# Altium footprint library RF_Module.PcbLib: 68 footprints (part 1 of 5)
Each footprint in its own frame and in the unit in brackets; x right, y up, seen from the top. Pads: shape width x height; smd on the part's side, far side on the other; paste and mask are expansions set on the pad; w line width, h text height; cw(c..) or ccw(c..) is an arc to the next point about the centre after c.
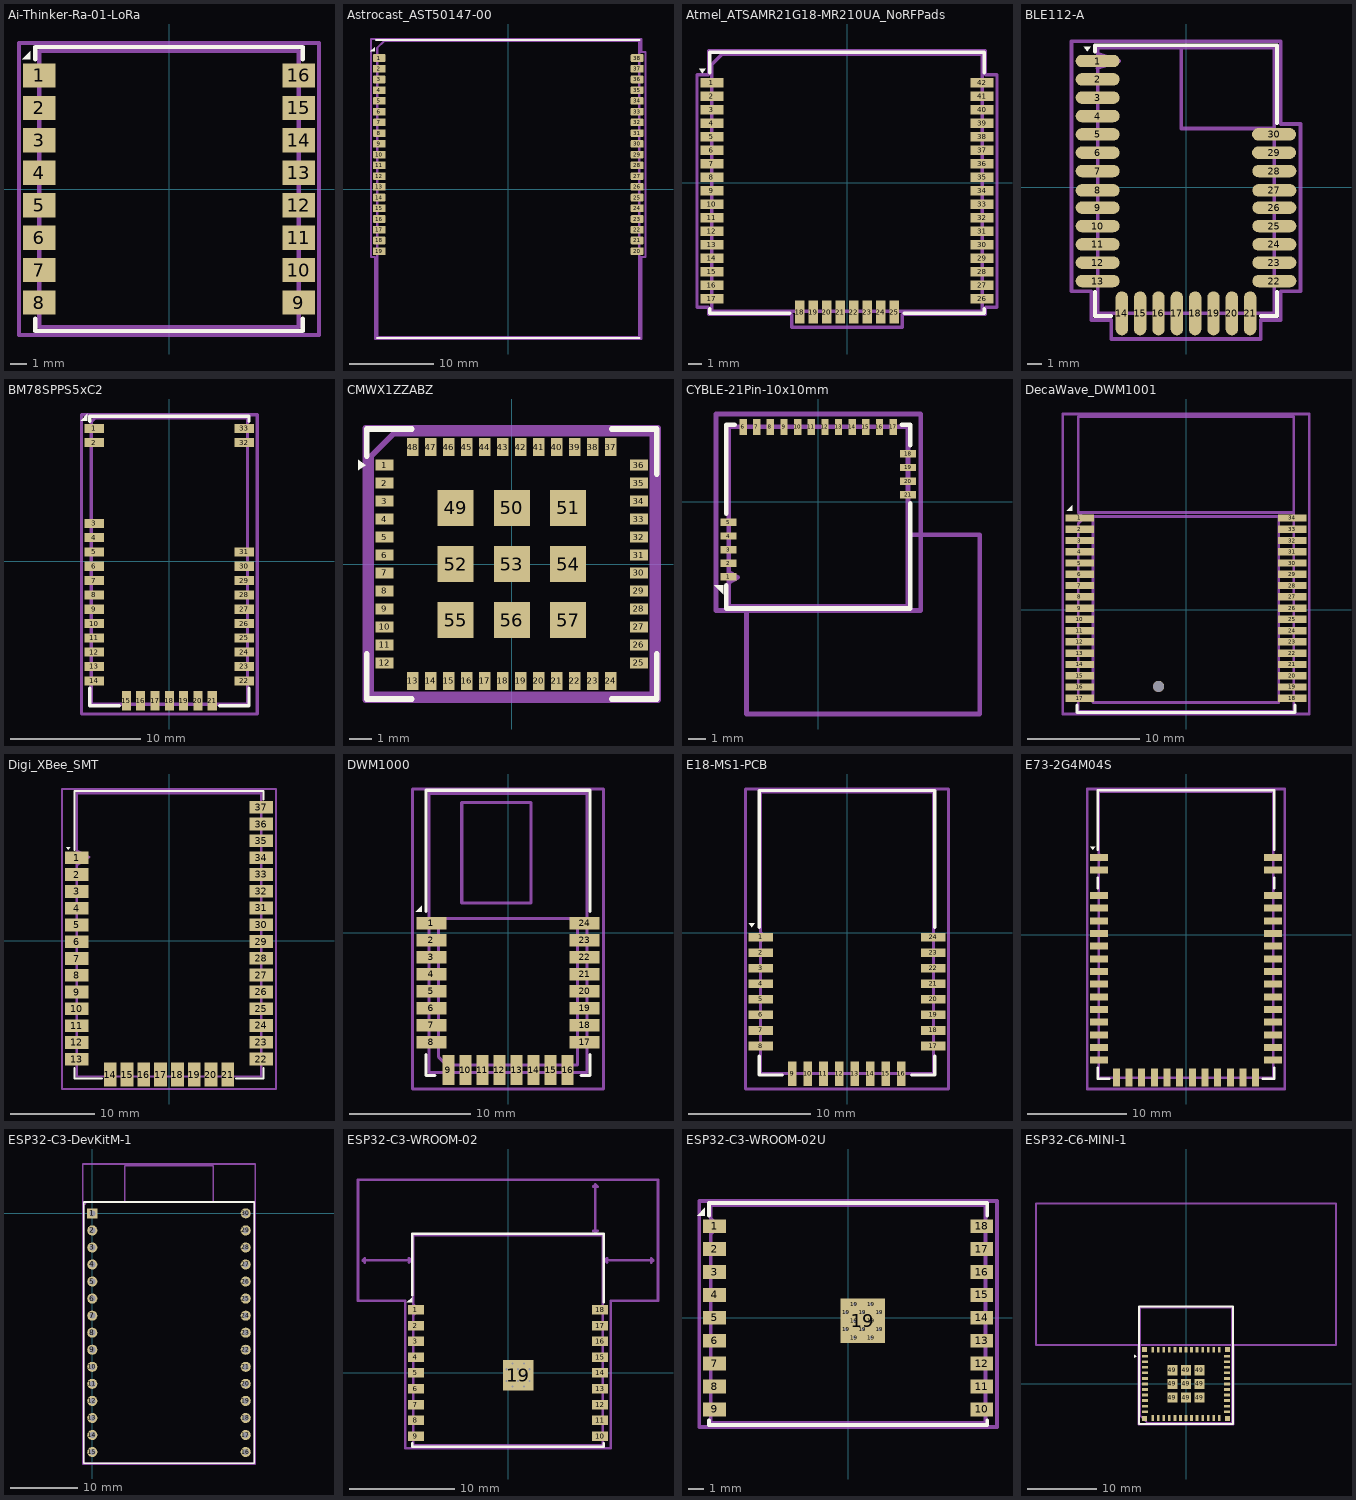
[diagram p0: the footprints below, top view; thin cyan lines are the x and y axes]

## Ai-Thinker-Ra-01-LoRa [mm]
pads (16):
  rect 2x1.5 smd: 1(-8,7) 2(-8,5) 3(-8,3) 4(-8,1) 5(-8,-1) 6(-8,-3) 7(-8,-5) 8(-8,-7) 9(8,-7) 10(8,-5) 11(8,-3) 12(8,-1) 13(8,1) 14(8,3) 15(8,5) 16(8,7)
F.SilkS:
  region: -8.55,8 -9.05,8 -8.55,8.5
  lines w0.254: -8.25,-8 -8.25,-8.75 8.25,-8.75 8.25,-8 ; -8.25,8 -8.25,8.75 8.25,8.75 8.25,8
F.Fab:
  lines w0.254: -8,-8.5 8,-8.5 8,8.5 -8,8.5 -8,-8.5
  text "'.Designator'" at -4.047,-1.84 h1
F.CrtYd:
  lines w0.254: -9.25,-9 9.25,-9 9.25,9 -9.25,9 -9.25,-9

## Astrocast_AST50147-00 [mm]
pads (38):
  rrect20% 1.5x0.9 smd: 1(-15.25,15.5) 2(-15.25,14.23) 3(-15.25,12.96) 4(-15.25,11.69) 5(-15.25,10.42) 6(-15.25,9.15) 7(-15.25,7.88) 8(-15.25,6.61) 9(-15.25,5.34) 10(-15.25,4.07) 11(-15.25,2.8) 12(-15.25,1.53) 13(-15.25,0.26) 14(-15.25,-1.01) 15(-15.25,-2.28) 16(-15.25,-3.55) 17(-15.25,-4.82) 18(-15.25,-6.09) 19(-15.25,-7.36) 20(15.25,-7.36) 21(15.25,-6.09) 22(15.25,-4.82) 23(15.25,-3.55) 24(15.25,-2.28) 25(15.25,-1.01) 26(15.25,0.26) 27(15.25,1.53) 28(15.25,2.8) 29(15.25,4.07) 30(15.25,5.34) 31(15.25,6.61) 32(15.25,7.88) 33(15.25,9.15) 34(15.25,10.42) 35(15.25,11.69) 36(15.25,12.96) 37(15.25,14.23) 38(15.25,15.5)
F.SilkS:
  region: -15.8,16.3 -16.3,16.3 -15.8,16.8
  lines w0.254: -15.62,17.62 15.5,17.62 ; -15.5,-17.62 15.5,-17.62
F.Fab:
  lines w0.254: -15.5,-17.5 -15.5,16.7 -14.7,17.5 15.5,17.5 15.5,-17.5 -15.5,-17.5
  text "'.Designator'" at -4.047,-0.84 h1
F.CrtYd:
  lines w0.254: -16.25,-8.06 -16.25,17.75 15.75,17.75 15.75,16.2 16.25,16.2 16.25,-8.06 15.75,-8.06 15.75,-17.75 -15.75,-17.75 -15.75,-8.06 -16.25,-8.06

## Atmel_ATSAMR21G18-MR210UA_NoRFPads [mm]
pads (42):
  rect 1.7x0.7 smd: 1(-10,7.4) 2(-10,6.4) 3(-10,5.4) 4(-10,4.4) 5(-10,3.4) 6(-10,2.4) 7(-10,1.4) 8(-10,0.4) 9(-10,-0.6) 10(-10,-1.6) 11(-10,-2.6) 12(-10,-3.6) 13(-10,-4.6) 14(-10,-5.6) 15(-10,-6.6) 16(-10,-7.6) 17(-10,-8.6) 26(10,-8.6) 27(10,-7.6) 28(10,-6.6) 29(10,-5.6) 30(10,-4.6) 31(10,-3.6) 32(10,-2.6) 33(10,-1.6) 34(10,-0.6) 35(10,0.4) 36(10,1.4) 37(10,2.4) 38(10,3.4) 39(10,4.4) 40(10,5.4) 41(10,6.4) 42(10,7.4)
  rect 0.7x1.7 smd: 18(-3.5,-9.575) 19(-2.5,-9.575) 20(-1.5,-9.575) 21(-0.5,-9.575) 22(0.5,-9.575) 23(1.5,-9.575) 24(2.5,-9.575) 25(3.5,-9.575)
F.SilkS:
  region: -10.7,8.1 -10.94,8.436 -10.46,8.436
  lines w0.254: -10.15,-9.325 -10.15,-9.65 -4.225,-9.65 ; -10.15,8.125 -10.15,9.65 10.15,9.65 10.15,8.125 ; 4.225,-9.65 10.15,-9.65 10.15,-9.325
F.Fab:
  lines w0.254: -10,-9.5 -10,8.75 -9.25,9.5 10,9.5 10,-9.5 -10,-9.5
  text "'.Designator'" at -4.047,-0.84 h1
F.CrtYd:
  lines w0.254: -11.1,-9.2 -11.1,8 -10.25,8 -10.25,9.75 10.25,9.75 10.25,8 11.1,8 11.1,-9.2 10.25,-9.2 10.25,-9.75 4.1,-9.75 4.1,-10.68 0,-10.68 -4.1,-10.68 -4.1,-9.75 -10.25,-9.75 -10.25,-9.2 -11.1,-9.2
Cmts.User:
  text "Layers with less than" at 1.529,7.394 h0.4
  text "shall not be filled" at 2.117,5.961 h0.4
  text "0.5mm distance from top" at 0.828,6.644 h0.4
  text "KEEP-OUT Zone" at 1.626,8.15 h0.5

## BLE112-A [mm]
pads (30):
  rrect100% 3x0.85 smd: 1(-6.025,8.6) 2(-6.025,7.35) 3(-6.025,6.1) 4(-6.025,4.85) 5(-6.025,3.6) 6(-6.025,2.35) 7(-6.025,1.1) 8(-6.025,-0.22) 9(-6.025,-1.4) 10(-6.025,-2.65) 11(-6.025,-3.9) 12(-6.025,-5.15) 13(-6.025,-6.4) 22(6.025,-6.4) 23(6.025,-5.15) 24(6.025,-3.9) 25(6.025,-2.65) 26(6.025,-1.4) 27(6.025,-0.22) 28(6.025,1.1) 29(6,2.35) 30(6,3.6)
  rrect100% 0.85x3 smd: 14(-4.375,-8.6) 15(-3.125,-8.6) 16(-1.875,-8.6) 17(-0.625,-8.6) 18(0.625,-8.6) 19(1.875,-8.6) 20(3.125,-8.6) 21(4.375,-8.6)
F.SilkS:
  region: -6.725,9.25 -6.965,9.586 -6.485,9.586
  lines w0.254: -6.2,-7.15 -6.2,-8.775 -5.1,-8.775 ; -6.2,9.25 -6.2,9.675 6.2,9.675 6.2,4.35 ; 5.1,-8.775 6.2,-8.775 6.2,-7.15
F.Fab:
  lines w0.254: -6.05,8.1 -4.55,8.6 -6,9.1 ; -0.325,9.45 -0.325,4 6,4 ; -6.025,-8.6 -6.025,9.5 6.025,9.5 6.025,-8.6 -6.025,-8.6
  text "'.Designator'" at -4.047,1.66 h1
F.CrtYd:
  lines w0.254: -7.8,-7.1 -7.8,9.95 6.45,9.95 6.45,4.3 7.8,4.3 7.8,-7.1 6.45,-7.1 6.45,-9.05 5.1,-9.05 5.1,-10.35 -5.1,-10.35 -5.1,-9.05 -6.45,-9.05 -6.45,-7.1 -7.8,-7.1

## BM78SPPS5xC2 [mm]
pads (33):
  rect 1.5x0.7 smd: 1(-5.75,10.2) 2(-5.75,9.1) 3(-5.75,2.9) 4(-5.75,1.8) 5(-5.75,0.7) 6(-5.75,-0.4) 7(-5.75,-1.5) 8(-5.75,-2.6) 9(-5.75,-3.7) 10(-5.75,-4.8) 11(-5.75,-5.9) 12(-5.75,-7) 13(-5.75,-8.1) 14(-5.75,-9.2) 22(5.75,-9.2) 23(5.75,-8.1) 24(5.75,-7) 25(5.75,-5.9) 26(5.75,-4.8) 27(5.75,-3.7) 28(5.75,-2.6) 29(5.75,-1.5) 30(5.75,-0.4) 31(5.75,0.7) 32(5.75,9.1) 33(5.75,10.2)
  rect 0.7x1.5 smd: 15(-3.3,-10.75) 16(-2.2,-10.75) 17(-1.1,-10.75) 18(0,-10.75) 19(1.1,-10.75) 20(2.2,-10.75) 21(3.3,-10.75)
F.SilkS:
  region: -6.3,10.8 -6.8,10.8 -6.3,11.3
  lines w0.254: -6.12,-9.75 -6.12,-11.12 -3.85,-11.12 ; -6.12,10.75 -6.12,11.12 6.12,11.12 6.12,10.75 ; 3.85,-11.12 6.12,-11.12 6.12,-9.75
F.Fab:
  lines w0.254: -6,-11 -6,10.7 -5.7,11 6,11 6,-11 -6,-11
  text "'.Designator'" at -4.047,-0.84 h1
F.CrtYd:
  lines w0.254: -6.75,-11.75 -6.75,11.25 6.75,11.25 6.75,-11.75 -6.75,-11.75
Cmts.User:
  text "KEEP OUT ZONE" at -4.31,8.475 h0.75

## CMWX1ZZABZ [mm]
pads (57):
  rect 0.8x0.5 smd: 1(-5.65,4.4) 2(-5.65,3.6) 3(-5.65,2.8) 4(-5.65,2) 5(-5.65,1.2) 6(-5.65,0.4) 7(-5.65,-0.4) 8(-5.65,-1.2) 9(-5.65,-2) 10(-5.65,-2.8) 11(-5.65,-3.6) 12(-5.65,-4.4) 25(5.65,-4.4) 26(5.65,-3.6) 27(5.65,-2.8) 28(5.65,-2) 29(5.65,-1.2) 30(5.65,-0.4) 31(5.65,0.4) 32(5.65,1.2) 33(5.65,2) 34(5.65,2.8) 35(5.65,3.6) 36(5.65,4.4)
  rect 0.5x0.8 smd: 13(-4.4,-5.2) 14(-3.6,-5.2) 15(-2.8,-5.2) 16(-2,-5.2) 17(-1.2,-5.2) 18(-0.4,-5.2) 19(0.4,-5.2) 20(1.2,-5.2) 21(2,-5.2) 22(2.8,-5.2) 23(3.6,-5.2) 24(4.4,-5.2) 37(4.4,5.2) 38(3.6,5.2) 39(2.8,5.2) 40(2,5.2) 41(1.2,5.2) 42(0.4,5.2) 43(-0.4,5.2) 44(-1.2,5.2) 45(-2,5.2) 46(-2.8,5.2) 47(-3.6,5.2) 48(-4.4,5.2)
  rect 1.6x1.6 smd: 49(-2.5,2.5) 50(0,2.5) 51(2.5,2.5) 52(-2.5,0) 53(0,0) 54(2.5,0) 55(-2.5,-2.5) 56(0,-2.5) 57(2.5,-2.5)
F.SilkS:
  region: -6.5,4.4 -6.836,4.16 -6.836,4.64
  lines w0.254: -6.45,-4 -6.45,-6 -4.45,-6 ; -6.45,4.8 -6.45,6 -4.45,6 ; 4.45,-6 6.45,-6 6.45,-4 ; 4.45,6 6.45,6 6.45,4
F.Fab:
  lines w0.254: -6.25,-5.8 -6.25,4.8 -5.25,5.8 6.25,5.8 6.25,-5.8 -6.25,-5.8
  text "'.Designator'" at -4.047,-0.84 h1
F.CrtYd:
  lines w0.254: -6.5,-6.05 -6.5,6.05 6.5,6.05 6.5,-6.05 -6.5,-6.05

## CYBLE-21Pin-10x10mm [mm]
pads (21):
  rect 0.91x0.41 smd: 1(-5,-4.18) 2(-5,-3.42) 3(-5,-2.66) 4(-5,-1.9) 5(-5,-1.14) 18(5,2.68) 19(5,1.92) 20(5,1.16) 21(5,0.4)
  rect 0.41x0.91 smd: 6(-4.19,4.18) 7(-3.43,4.18) 8(-2.67,4.18) 9(-1.91,4.18) 10(-1.15,4.18) 11(-0.39,4.18) 12(0.37,4.18) 13(1.13,4.18) 14(1.89,4.18) 15(2.65,4.18) 16(3.41,4.18) 17(4.17,4.18)
F.SilkS:
  region: -5.3,-5.15 -5.8,-4.65 -5.3,-4.65
  lines w0.254: -5.12,-4.65 -5.12,-5.94 5.12,-5.94 5.12,-0.07 ; -5.12,-0.67 -5.12,4.3 -4.66,4.3 ; 4.65,4.3 5.12,4.3 5.12,3.15
F.Fab:
  lines w0.254: -5,-4.5 -4.5,-4.2 -5,-3.9 ; -5,-5.82 5,-5.82 5,4.18 -5,4.18 -5,-5.82
  text "'.Designator'" at -4.047,-0.84 h1
F.CrtYd:
  lines w0.254: -5.7,-6.05 5.7,-6.05 5.7,4.9 -5.7,4.9 -5.7,-6.05
Dwgs.User:
  lines w0.254: -4,-5.82 -4,-11.82 9,-11.82 9,-1.82 5,-1.82
Cmts.User:
  text "For Best RF Performance" at -1.879,-10.51 h0.5
  text "Copper Keep Out" at -1.5,-1.653 h0.5
  text "Optional Copper Keep Out" at -2.002,-9.335 h0.5

## DecaWave_DWM1001 [mm]
pads (35):
  rect 2.54x0.65 smd: 1(-9.42,8.13) 2(-9.42,7.13) 3(-9.42,6.13) 4(-9.42,5.13) 5(-9.42,4.13) 6(-9.42,3.13) 7(-9.42,2.13) 8(-9.42,1.13) 9(-9.42,0.13) 10(-9.42,-0.87) 11(-9.42,-1.87) 12(-9.42,-2.87) 13(-9.42,-3.87) 14(-9.42,-4.87) 15(-9.42,-5.87) 16(-9.42,-6.87) 17(-9.42,-7.87) 18(9.42,-7.87) 19(9.42,-6.87) 20(9.42,-5.87) 21(9.42,-4.87) 22(9.42,-3.87) 23(9.42,-2.87) 24(9.42,-1.87) 25(9.42,-0.87) 26(9.42,0.13) 27(9.42,1.13) 28(9.42,2.13) 29(9.42,3.13) 30(9.42,4.13) 31(9.42,5.13) 32(9.42,6.13) 33(9.42,7.13) 34(9.42,8.13)
  round 1 hole 1: Un1(-2.435,-6.82)
F.SilkS:
  region: -10.1,8.75 -10.6,8.75 -10.1,9.25
  lines w0.254: -9.685,-8.46 -9.685,-9.14 9.685,-9.14 9.685,-8.46
F.Fab:
  lines w0.254: 9.565,8.63 -9.565,8.63 ; -9.565,8.63 -9.565,17.11 9.565,17.11 9.565,-9.02 -9.565,-9.02 -9.565,7.63 -9.065,8.13 -9.565,8.63 ; -8.265,-8.25 -8.265,8.25 8.235,8.25 8.235,-8.25 -8.265,-8.25
  text "'.Designator'" at -4.047,-0.84 h1
F.CrtYd:
  lines w0.254: -10.94,-9.27 -10.94,17.36 10.94,17.36 10.94,-9.27 -10.94,-9.27
Cmts.User:
  text "No bare Cu" at -6.269,-8.217 h0.15
  text "KEEP-OUT ZONE" at -5.88,12.35 h1
  text "No bare Cu" at 5.041,8.083 h0.15
  text "No components, traces, or copper on any layer" at -8.34,11.092 h0.5
3D body "DecaWave_DWM1001.step": height 3.2, standoff -0.01, extent -9.565,-8.893 9.565,17.227

## Digi_XBee_SMT [mm]
pads (37):
  rect 2.84x1.52 smd: 1(-11,9.9) 2(-11,7.9) 3(-11,5.9) 4(-11,3.9) 5(-11,1.9) 6(-11,-0.1) 7(-11,-2.1) 8(-11,-4.1) 9(-11,-6.1) 10(-11,-8.1) 11(-11,-10.1) 12(-11,-12.1) 13(-11,-14.1) 22(11,-14.08) 23(11,-12.08) 24(11,-10.08) 25(11,-8.08) 26(11,-6.08) 27(11,-4.08) 28(11,-2.08) 29(11,-0.08) 30(11,1.92) 31(11,3.92) 32(11,5.92) 33(11,7.92) 34(11,9.92) 35(11,11.92) 36(11,13.92) 37(11,15.92)
  rect 1.52x2.84 smd: 14(-7,-15.93) 15(-5,-15.93) 16(-3,-15.93) 17(-1,-15.93) 18(1,-15.93) 19(3,-15.93) 20(5,-15.93) 21(7,-15.93)
F.SilkS:
  region: -12,10.85 -12.24,11.186 -11.76,11.186
  lines w0.254: -11.25,-15.15 -11.25,-16.4 -8,-16.4 ; -11.25,10.85 -11.25,17.85 11.25,17.85 11.25,16.85 ; 8,-16.4 11.25,-16.4 11.25,-15.15
F.Fab:
  lines w0.254: -11,9 -9.5,10 -11,10.75 ; -11,-16.18 11,-16.18 11,17.6 -11,17.6 -11,-16.18
  text "'.Designator'" at -3.797,-0.84 h1
F.CrtYd:
  lines w0.254: -12.75,-17.65 12.75,-17.65 12.75,18.1 -12.75,18.1 -12.75,-17.65
Dwgs.User:
  text "GND plane recommended!" at -7.093,2.367 h0.8
  text "Below module keepout or" at -7.019,3.567 h0.8
Cmts.User:
  text "Keepout" at 3.387,9.567 h0.5
  text "required" at 3.431,8.555 h0.5

## DWM1000 [mm]
pads (24):
  rect 2.45x1 smd: 1(-6.3,0.799) 2(-6.3,-0.601) 3(-6.3,-2.001) 4(-6.3,-3.401) 5(-6.3,-4.801) 6(-6.3,-6.201) 7(-6.3,-7.601) 8(-6.3,-9.001) 17(6.3,-9) 18(6.3,-7.6) 19(6.3,-6.201) 20(6.3,-4.801) 21(6.3,-3.401) 22(6.3,-2.001) 23(6.3,-0.601) 24(6.3,0.799)
  rect 1x2.45 smd: 9(-4.9,-11.296) 10(-3.5,-11.296) 11(-2.1,-11.296) 12(-0.7,-11.296) 13(0.7,-11.296) 14(2.1,-11.296) 15(3.5,-11.296) 16(4.9,-11.296)
F.SilkS:
  region: -7.1,1.75 -7.6,1.75 -7.1,2.25
  lines w0.254: -6.75,-10 -6.75,-11.75 -6,-11.75 ; -6.75,1.75 -6.75,11.75 6.75,11.75 6.75,1.75 ; 6,-11.75 6.75,-11.75 6.75,-10
F.Fab:
  lines w0.254: -6.5,-11.5 -6.5,11.5 6.5,11.5 6.5,-11.5 -6.5,-11.5 ; -5.715,-10.23 -5.715,1.2 4.445,1.2 5.08,1.2 5.715,0.565 5.715,-10.865 -5.08,-10.865 -5.715,-10.23 ; -3.81,2.47 -3.81,10.725 1.905,10.725 1.905,2.47 -3.81,2.47
  text "'.Designator'" at -4.047,-0.84 h1
F.CrtYd:
  lines w0.254: -7.85,-12.85 -7.85,11.85 7.85,11.85 7.85,-12.85 -7.85,-12.85
Cmts.User:
  text "KEEP-OUT ZONE" at -5.88,8.24 h1
  text "no components, traces, or copper on any layer" at -7.435,6.018 h0.45
3D body "DWM1000.step": height 4, standoff 0, extent -6.6,-11.5 6.6,11.5

## E18-MS1-PCB [mm]
pads (24):
  rect 2x0.7 smd: 1(-7.05,-0.35) 2(-7.05,-1.62) 3(-7.05,-2.89) 4(-7.05,-4.16) 5(-7.05,-5.43) 6(-7.05,-6.7) 7(-7.05,-7.97) 8(-7.05,-9.24) 17(7.05,-9.24) 18(7.05,-7.97) 19(7.05,-6.7) 20(7.05,-5.43) 21(7.05,-4.16) 22(7.05,-2.89) 23(7.05,-1.62) 24(7.05,-0.35)
  rect 0.7x2 smd: 9(-4.46,-11.5) 10(-3.19,-11.5) 11(-1.92,-11.5) 12(-0.65,-11.5) 13(0.62,-11.5) 14(1.89,-11.5) 15(3.16,-11.5) 16(4.43,-11.5)
F.SilkS:
  region: -7.77,0.46 -8.01,0.796 -7.53,0.796
  lines w0.254: -7.17,-10.05 -7.17,-11.62 -5.28,-11.62 ; -7.17,0.46 -7.17,11.62 7.17,11.62 7.17,0.46 ; 5.28,-11.62 7.17,-11.62 7.17,-10.05
F.Fab:
  lines w0.254: -7.05,-11.5 7.05,-11.5 7.05,11.5 -7.05,11.5 -7.05,0 -6.7,-0.35 -7.05,-0.7 -7.05,-11.5
  text "'.Designator'" at -4.047,-0.84 h1
F.CrtYd:
  lines w0.254: -8.3,-12.75 8.3,-12.75 8.3,11.75 -8.3,11.75 -8.3,-12.75
Cmts.User:
  text "No metal, traces, or components" at -4.606,7.673 h0.4
  text "KEEP-OUT ZONE" at -5.88,9.35 h1
  text "on any PCB layer." at -2.53,6.673 h0.4

## E73-2G4M04S [mm]
pads (44):
  rect 1.8x0.7 smd: 0(-8.75,7.72) 1(-8.75,6.45) 2(-8.75,3.91) 3(-8.75,2.64) 4(-8.75,1.37) 5(-8.75,0.1) 6(-8.75,-1.17) 7(-8.75,-2.44) 8(-8.75,-3.71) 9(-8.75,-4.98) 10(-8.75,-6.25) 11(-8.75,-7.52) 12(-8.75,-8.79) 13(-8.75,-10.06) 14(-8.75,-11.33) 15(-8.75,-12.6) 28(8.75,-12.6) 29(8.75,-11.33) 30(8.75,-10.06) 31(8.75,-8.79) 32(8.75,-7.52) 33(8.75,-6.25) 34(8.75,-4.98) 35(8.75,-3.71) 36(8.75,-2.44) 37(8.75,-1.17) 38(8.75,0.1) 39(8.75,1.37) 40(8.75,2.64) 41(8.75,3.91) 42(8.75,6.45) 43(8.75,7.72)
  rect 0.7x1.8 smd: 16(-6.985,-14.35) 17(-5.715,-14.35) 18(-4.445,-14.35) 19(-3.175,-14.35) 20(-1.905,-14.35) 21(-0.635,-14.35) 22(0.635,-14.35) 23(1.905,-14.35) 24(3.175,-14.35) 25(4.445,-14.35) 26(5.715,-14.35) 27(6.985,-14.35)
F.SilkS:
  region: -9.37,8.49 -9.61,8.826 -9.13,8.826
  lines w0.254: -8.87,-13.35 -8.87,-14.47 -7.72,-14.47 ; -8.87,4.66 -8.87,5.7 ; -8.87,8.49 -8.87,14.47 8.87,14.47 8.87,8.49 ; 7.72,-14.47 8.87,-14.47 8.87,-13.35 ; 8.87,4.66 8.87,5.7
F.Fab:
  lines w0.254: -8.75,-14.35 8.75,-14.35 8.75,14.35 -8.75,14.35 -8.75,8.07 -8.4,7.72 -8.75,7.37 -8.75,-14.35
  text "'.Designator'" at -4.047,-0.84 h1
F.CrtYd:
  lines w0.254: -9.9,-15.5 9.9,-15.5 9.9,14.6 -9.9,14.6 -9.9,-15.5
Cmts.User:
  text "No metal, traces, or components" at -4.606,10.773 h0.4
  text "on any PCB layer." at -2.53,9.773 h0.4
  text "KEEP-OUT ZONE" at -5.88,12.2 h1

## ESP32-C3-DevKitM-1 [mm]
pads (30):
  rect 1.5x1.5 hole 0.9: 1(0,0)
  round 1.5 hole 0.9: 2(0,-2.54) 3(0,-5.08) 4(0,-7.62) 5(0,-10.16) 6(0,-12.7) 7(0,-15.24) 8(0,-17.78) 9(0,-20.32) 10(0,-22.86) 11(0,-25.4) 12(0,-27.94) 13(0,-30.48) 14(0,-33.02) 15(0,-35.56) 16(22.86,-35.56) 17(22.86,-33.02) 18(22.86,-30.48) 19(22.86,-27.94) 20(22.86,-25.4) 21(22.86,-22.86) 22(22.86,-20.32) 23(22.86,-17.78) 24(22.86,-15.24) 25(22.86,-12.7) 26(22.86,-10.16) 27(22.86,-7.62) 28(22.86,-5.08) 29(22.86,-2.54) 30(22.86,0)
F.SilkS:
  lines w0.254: -1.27,-37.24 24.13,-37.24 24.13,1.68 -1.27,1.68 -1.27,-37.24
F.Fab:
  lines w0.254: -1.27,-37.235 24.13,-37.235 24.13,1.675 18.03,1.675 18.03,7.08 4.83,7.08 4.83,1.675 -0.83,1.675 -1.27,1.18 -1.27,-37.235
  text "'.Designator'" at 7.383,-18.62 h1
F.CrtYd:
  lines w0.254: -1.4,-37.34 24.26,-37.34 24.26,7.35 -1.4,7.35 -1.4,-37.34
Cmts.User:
  text "Antenna" at 8.664,3.668 h1

## ESP32-C3-WROOM-02 [mm]
pads (40):
  rect 1.5x0.9 smd: 1(-8.75,6) 2(-8.75,4.5) 3(-8.75,3) 4(-8.75,1.5) 5(-8.75,0) 6(-8.75,-1.5) 7(-8.75,-3) 8(-8.75,-4.5) 9(-8.75,-6) 10(8.75,-6) 11(8.75,-4.5) 12(8.75,-3) 13(8.75,-1.5) 14(8.75,0) 15(8.75,1.5) 16(8.75,3) 17(8.75,4.5) 18(8.75,6)
  round 0.6 hole 0.2: 19(-0.14,-0.75) 19(-0.14,0.35) 19(0.41,-1.3) 19(0.41,-0.2) 19(0.41,0.9) 19(0.96,-0.75) 19(0.96,0.35) 19(1.51,-1.3) 19(1.51,-0.2) 19(1.51,0.9) 19(2.06,-0.75) 19(2.06,0.35)
  rect 2.9x2.9 smd: 19(0.96,-0.2)
  rect 0.7x0.7 on Top Paste: Un1(-0.14,0.9) Un2(-0.14,-0.2) Un3(-0.14,-1.3) Un4(0.96,0.9) Un5(0.96,-0.2) Un6(0.96,-1.3) Un7(2.06,0.9) Un8(2.06,-0.2) Un9(2.06,-1.3)
F.SilkS:
  region: -9.1,6.7 -9.6,6.7 -9.1,7.2
  lines w0.254: -9.11,-6.71 -9.11,-7.01 9.11,-7.01 9.11,-6.71 ; -9.11,7.4 -9.11,13.21 9.11,13.21 9.11,6.71
F.Fab:
  lines w0.254: -9,-6.9 -9,5.5 -8.5,6 -9,6.5 -9,13.1 9,13.1 9,-6.9 -9,-6.9
  text "'.Designator'" at -4.047,-0.84 h1
F.CrtYd:
  lines w0.254: -14.25,6.85 -14.25,18.35 14.25,18.35 14.25,6.85 9.75,6.85 9.75,-7.15 -9.75,-7.15 -9.75,6.85 -14.25,6.85
Cmts.User:
  lines w0.254: -13.6,10.5 -13.8,10.7 ; -13.6,10.9 -13.8,10.7 ; -9.4,10.5 -9.2,10.7 ; -9.4,10.9 -9.2,10.7 ; 8.1,13.5 8.3,13.3 ; 8.1,17.7 8.3,17.9 ; 8.5,13.5 8.3,13.3 ; 8.5,17.7 8.3,17.9 ; 9.4,10.5 9.2,10.7 ; 9.4,10.9 9.2,10.7 ; 13.6,10.5 13.8,10.7 ; 13.6,10.9 13.8,10.7 ; -13.8,10.7 -9.2,10.7 ; 8.3,13.3 8.3,17.9 ; 9.2,10.7 13.8,10.7
  text "Antenna" at -2.766,9.35 h1
  text "KEEP-OUT ZONE" at -5.88,15.35 h1
  text "5 mm" at 8.15,14.779 h0.5
  text "5 mm" at 10.679,10.85 h0.5
3D body "ESP32-C3-WROOM-02.step": height 3.2, standoff -0.04, extent -9,-6.9 9,13.1

## ESP32-C3-WROOM-02U [mm]
pads (40):
  rect 1.5x0.9 smd: 1(-8.75,6) 2(-8.75,4.5) 3(-8.75,3) 4(-8.75,1.5) 5(-8.75,0) 6(-8.75,-1.5) 7(-8.75,-3) 8(-8.75,-4.5) 9(-8.75,-6) 10(8.75,-6) 11(8.75,-4.5) 12(8.75,-3) 13(8.75,-1.5) 14(8.75,0) 15(8.75,1.5) 16(8.75,3) 17(8.75,4.5) 18(8.75,6)
  round 0.6 hole 0.2: 19(-0.14,-0.75) 19(-0.14,0.35) 19(0.41,-1.3) 19(0.41,-0.2) 19(0.41,0.9) 19(0.96,-0.75) 19(0.96,0.35) 19(1.51,-1.3) 19(1.51,-0.2) 19(1.51,0.9) 19(2.06,-0.75) 19(2.06,0.35)
  rect 2.9x2.9 smd: 19(0.96,-0.2)
  rect 0.7x0.7 on Top Paste: Un1(-0.14,0.9) Un2(-0.14,-0.2) Un3(-0.14,-1.3) Un4(0.96,0.9) Un5(0.96,-0.2) Un6(0.96,-1.3) Un7(2.06,0.9) Un8(2.06,-0.2) Un9(2.06,-1.3)
F.SilkS:
  region: -9.4,6.7 -9.9,6.7 -9.4,7.2
  lines w0.254: -9.11,-6.71 -9.11,-7.01 9.11,-7.01 9.11,-6.71 ; -9.11,6.71 -9.11,7.51 9.11,7.51 9.11,6.71
F.Fab:
  lines w0.254: -9,-6.9 -9,5.5 -8.5,6 -9,6.5 -9,7.4 9,7.4 9,-6.9 -9,-6.9
  text "'.Designator'" at -4.047,-0.84 h1
F.CrtYd:
  lines w0.254: -9.75,-7.15 -9.75,7.65 9.75,7.65 9.75,-7.15 -9.75,-7.15
3D body "ESP32-C3-WROOM-02U.step": height 3.2, standoff -0.04, extent -9,-6.9 9,7.4

## ESP32-C6-MINI-1 [mm]
pads (61):
  rect 0.8x0.4 smd: 1(-5.9,4) 2(-5.9,3.2) 3(-5.9,2.4) 4(-5.9,1.6) 5(-5.9,0.8) 6(-5.9,0) 7(-5.9,-0.8) 8(-5.9,-1.6) 9(-5.9,-2.4) 10(-5.9,-3.2) 11(-5.9,-4) 25(5.9,-4) 26(5.9,-3.2) 27(5.9,-2.4) 28(5.9,-1.6) 29(5.9,-0.8) 30(5.9,0) 31(5.9,0.8) 32(5.9,1.6) 33(5.9,2.4) 34(5.9,3.2) 35(5.9,4)
  rect 0.4x0.8 smd: 12(-4.8,-4.9) 13(-4,-4.9) 14(-3.2,-4.9) 15(-2.4,-4.9) 16(-1.6,-4.9) 17(-0.8,-4.9) 18(0,-4.9) 19(0.8,-4.9) 20(1.6,-4.9) 21(2.4,-4.9) 22(3.2,-4.9) 23(4,-4.9) 24(4.8,-4.9) 36(4.8,4.9) 37(4,4.9) 38(3.2,4.9) 39(2.4,4.9) 40(1.6,4.9) 41(0.8,4.9) 42(0,4.9) 43(-0.8,4.9) 44(-1.6,4.9) 45(-2.4,4.9) 46(-3.2,4.9) 47(-4,4.9) 48(-4.8,4.9)
  rect 1.45x1.45 smd: 49(-1.975,-1.975) 49(-1.975,0) 49(0,-1.975) 49(0,0) 49(0,1.975) 49(1.975,-1.975) 49(1.975,0) 49(1.975,1.975)
  rrect0% 1.45x1.45 smd: 49(-1.975,1.975)
  rect 0.7x0.7 smd: 50(5.95,4.95) 51(5.95,-4.95) 52(-5.95,-4.95) 53(-5.95,4.95)
F.SilkS:
  region: -7.1,4 -7.436,3.76 -7.436,4.24
  lines w0.254: -6.75,-5.75 6.75,-5.75 6.75,11.15 -6.75,11.15 -6.75,-5.75
F.Fab:
  lines w0.254: -6.6,5.6 6.6,5.6 ; -6.6,-4.6 -5.6,-5.6 6.6,-5.6 6.6,11 -6.6,11 -6.6,-4.6
  text "'.Designator'" at -4.047,-0.84 h1
F.CrtYd:
  lines w0.254: -21.6,5.6 -6.85,5.6 -6.85,-5.85 6.85,-5.85 6.85,5.6 21.6,5.6 21.6,26 -21.6,26 -21.6,5.6
Cmts.User:
  text "Antenna" at -2.766,7.025 h1
  text "Keepout Area" at -4.661,14.543 h1